# EAGLE library part PH06 (library wb-pinheader)
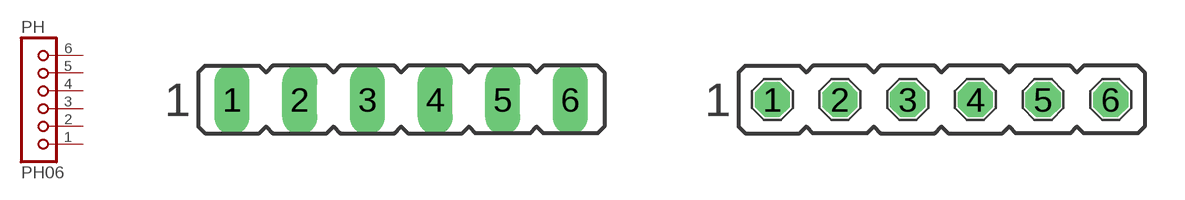
[diagram p1: symbol with the pads of 6PIN-L; footprints 6PIN-L, 6PIN-OCT]

Designator prefix PH

## PH06L  [6PIN-L]
1  1  pas
2  2  pas
3  3  pas
4  4  pas
5  5  pas
6  6  pas

## PH06OCT  [6PIN-OCT]
Pads as for 6PIN-L

## Footprint 6PIN-L (pad centres in mm)
drill 0.813 long: 1 -6.35,0; 2 -3.81,0; 3 -1.27,0; 4 1.27,0; 5 3.81,0; 6 6.35,0

## Footprint 6PIN-OCT (pad centres in mm)
drill 0.813 octagon: 1 -6.35,0; 2 -3.81,0; 3 -1.27,0; 4 1.27,0; 5 3.81,0; 6 6.35,0